# Altium footprint library 3x2-pin vertical (39-28-1063).PcbLib: 1 footprints
Each footprint in its own frame and in the unit in brackets; x right, y up, seen from the top. Pads: shape width x height; smd on the part's side, far side on the other; paste and mask are expansions set on the pad; w line width, h text height; cw(c..) or ccw(c..) is an arc to the next point about the centre after c.
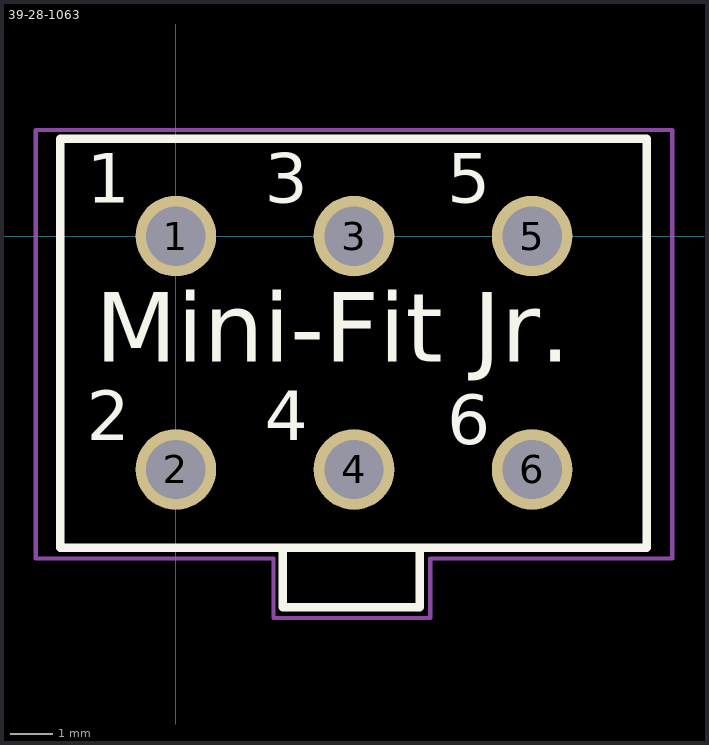
[diagram p0: the footprint, top view; thin cyan lines are the x and y axes]

## 39-28-1063 [mm] "MOLEX - 39-28-1063 - HEADER, MINI-FIT, 6WAY"
pads (6):
  round 1.9 hole 1.4: 1(0,0) 2(0,-5.5) 3(4.2,0) 4(4.2,-5.5) 5(8.4,0) 6(8.4,-5.5)
Top Overlay:
  lines w0.2: -2.725,2.3 -2.725,-7.35 11.1,-7.35 11.1,2.3 -2.7,2.3 ; 2.525,-7.375 2.525,-8.75 5.75,-8.75 ; 5.75,-8.725 5.75,-7.375
  text "Mini-Fit Jr." at -1.9,-3.5 h2.8
  text "1" at -2.1,0.4 h2
  text "3" at 2.1,0.4 h2
  text "5" at 6.4,0.4 h2
  text "2" at -2.1,-5.2 h2
  text "4" at 2.1,-5.2 h2
  text "6" at 6.4,-5.3 h2
Mechanical 15:
  lines w0.1: -3.3,-7.6 -3.3,2.5 11.7,2.5 11.7,-7.6 6,-7.6 6,-9 2.3,-9 2.3,-7.6 -3.3,-7.6
3D body: height 12.8, standoff -3.5, extent -3.1,-8.75 11.5,2.25